# Altium schematic symbol library graphical.SchLib: 1 symbol
Pins are listed as number, name and electrical type; pins without a type are passive.

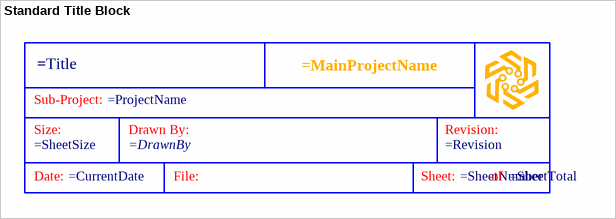
[diagram p0: symbol Standard Title Block]

## Standard Title Block
designator TBLOCK?  (value not drawn)  (graphical)
text: Sub-Project:; Size:; Drawn By:; Revision:; Date:; File:; Sheet:; of